# Altium footprint library Sheet1.PcbLib: 42 footprints (part 2 of 3)
Each footprint in its own frame and in the unit in brackets; x right, y up, seen from the top. Pads: shape width x height; smd on the part's side, far side on the other; paste and mask are expansions set on the pad; w line width, h text height; cw(c..) or ccw(c..) is an arc to the next point about the centre after c.
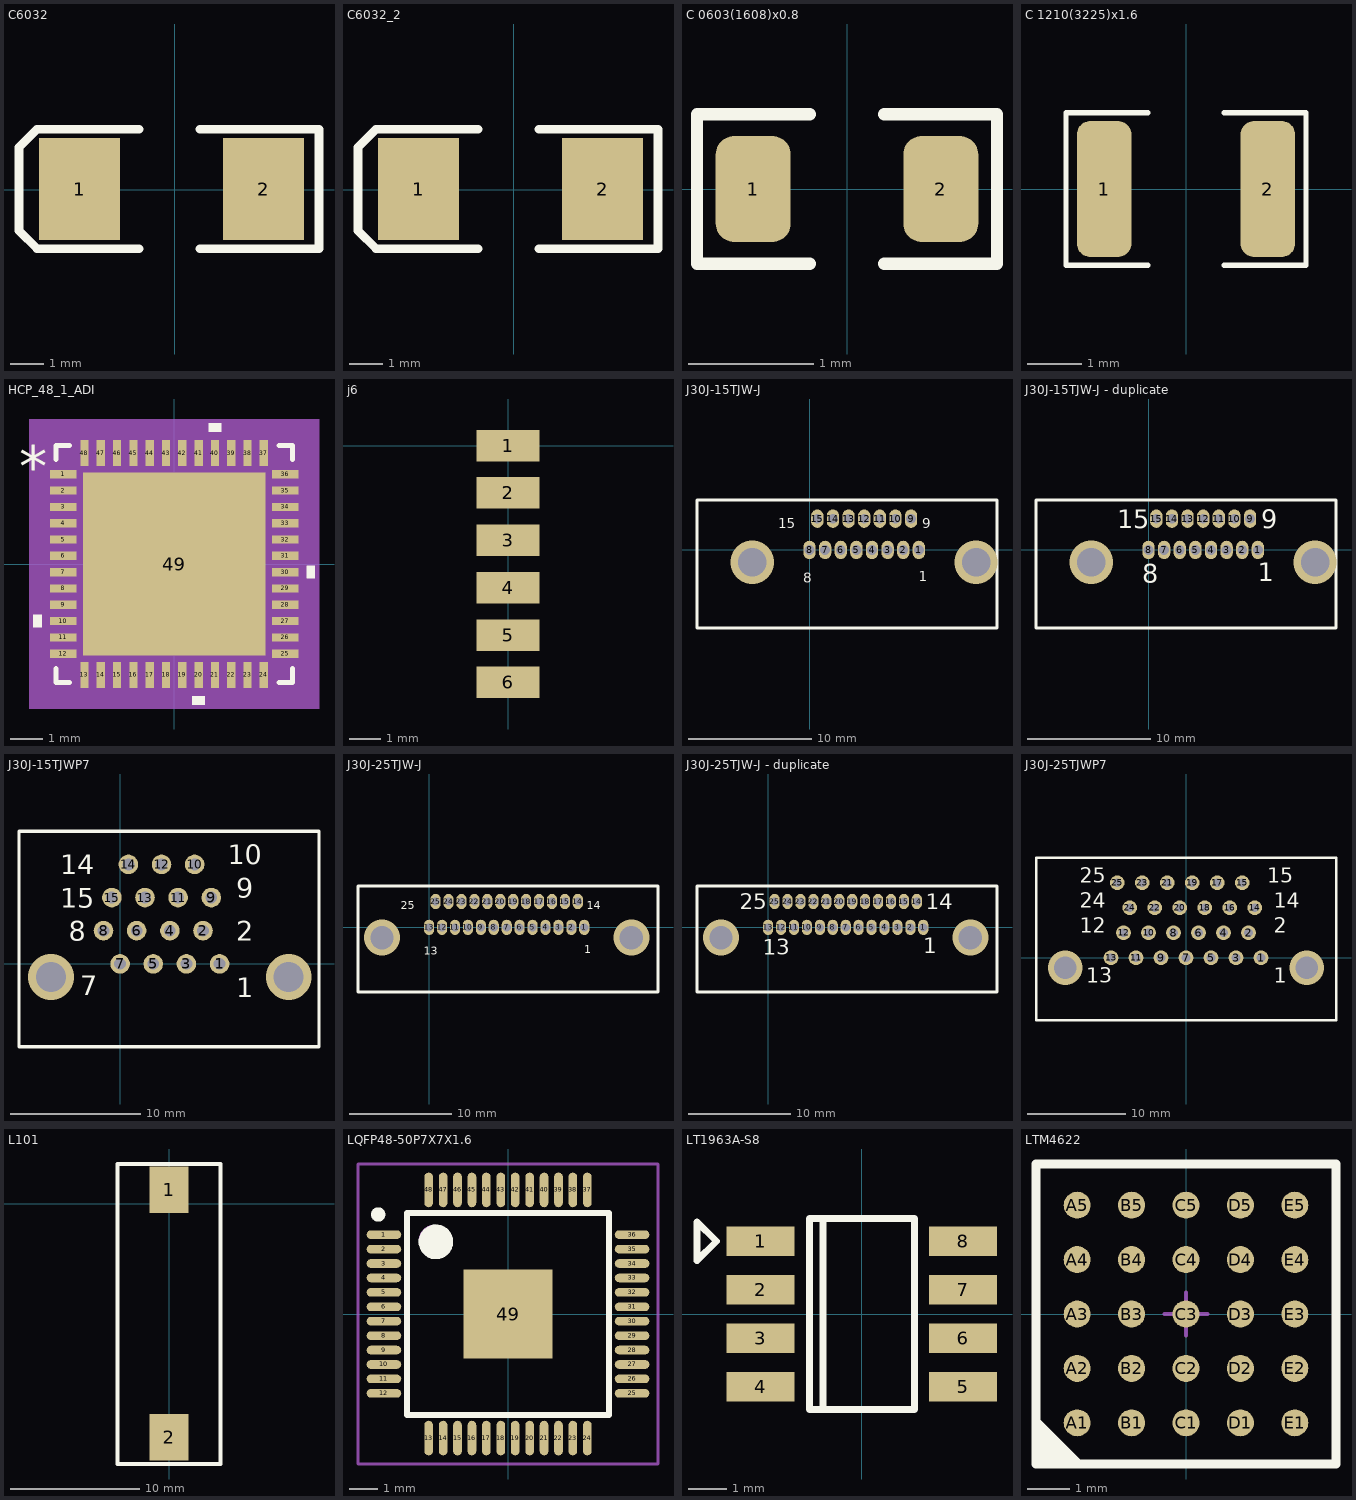
[diagram p1: the footprints below, top view; thin cyan lines are the x and y axes]

## C6032 [mil]
height 98.43
pads (2):
  rect 95x120 smd: 1(-112,1) 2(104,1)
Top Overlay:
  lines w10: -42,-69 -156,-69 -162,-69 -183,-48 -183,50 -163,70 -162,71 -42,71 ; 29,-69 169,-69 169,71 29,71
3D body "TAJ-C.STEP": height 102.36, standoff 0, extent -121.11,-61.99 115.11,63.99

## C6032_2 [mil]
pads (2):
  rect 95x120 smd: 1(-112,1) 2(104,1)
Top Overlay:
  lines w10: -42,-69 -156,-69 -162,-69 -183,-48 -183,50 -163,70 -162,71 -42,71 ; 29,-69 169,-69 169,71 29,71
3D body "TAJ-C.STEP": height 102.36, standoff 0, extent -121.11,-61.99 115.11,63.99

## C 0603(1608)x0.8 [mm]
height 0.8
pads (2):
  rrect50% 0.6x0.85 smd: 1(-0.75,0) 2(0.75,0)
Top Overlay:
  lines w0.1: -0.3,-0.6 -1.2,-0.6 -1.2,0.6 -0.3,0.6 ; 0.3,-0.6 1.2,-0.6 1.2,0.6 0.3,0.6
3D body "Cap 0603(1608)x80N.STEP": height 0.81, standoff 0, extent -0.8,-0.4 0.8,0.4

## C 1210(3225)x1.6 [mm]
height 1.6
pads (2):
  rrect50% 1x2.5 smd: 1(-1.5,0) 2(1.5,0)
Top Overlay:
  lines w0.1: -0.7,-1.4 -2.2,-1.4 -2.2,1.4 -0.7,1.4 ; 0.7,-1.4 2.2,-1.4 2.2,1.4 0.7,1.4
3D body "Cap 1210(3225)x160N.STEP": height 1.61, standoff 0, extent -1.6,-1.25 1.6,1.25

## HCP_48_1_ADI [mm]
pads (49):
  rect 0.805x0.254 smd paste+0 mask+0: 1(-3.402,2.75) 2(-3.402,2.25) 3(-3.402,1.75) 4(-3.402,1.25) 5(-3.402,0.75) 6(-3.402,0.25) 7(-3.402,-0.25) 8(-3.402,-0.75) 9(-3.402,-1.25) 10(-3.402,-1.75) 11(-3.402,-2.25) 12(-3.402,-2.75) 25(3.402,-2.75) 26(3.402,-2.25) 27(3.402,-1.75) 28(3.402,-1.25) 29(3.402,-0.75) 30(3.402,-0.25) 31(3.402,0.25) 32(3.402,0.75) 33(3.402,1.25) 34(3.402,1.75) 35(3.402,2.25) 36(3.402,2.75)
  rect 0.254x0.805 smd paste+0 mask+0: 13(-2.75,-3.402) 14(-2.25,-3.402) 15(-1.75,-3.402) 16(-1.25,-3.402) 17(-0.75,-3.402) 18(-0.25,-3.402) 19(0.25,-3.402) 20(0.75,-3.402) 21(1.25,-3.402) 22(1.75,-3.402) 23(2.25,-3.402) 24(2.75,-3.402) 37(2.75,3.402) 38(2.25,3.402) 39(1.75,3.402) 40(1.25,3.402) 41(0.75,3.402) 42(0.25,3.402) 43(-0.25,3.402) 44(-0.75,3.402) 45(-1.25,3.402) 46(-1.75,3.402) 47(-2.25,3.402) 48(-2.75,3.402)
  rect 5.6x5.6 smd paste-2.787 mask+0: 49(0,0)
Top Overlay:
  region: -4.059,-1.559 -4.313,-1.559 -4.313,-1.94 -4.059,-1.94
  region: 0.941,-4.059 0.56,-4.059 0.56,-4.313 0.941,-4.313
  region: 4.059,-0.059 4.313,-0.059 4.313,-0.44 4.059,-0.44
  region: 1.441,4.059 1.06,4.059 1.06,4.313 1.441,4.313
  lines w0.152: -3.627,-3.21 -3.627,-3.627 -3.21,-3.627 ; -3.627,3.21 -3.627,3.627 -3.21,3.627 ; 3.21,-3.627 3.627,-3.627 3.627,-3.21 ; 3.21,3.627 3.627,3.627 3.627,3.21
  text "*" at -4.757,2.365 h1.27
Top Paste:
  region: -1.5,2.7 -2.7,2.7 -2.7,1.5 -1.5,1.5
  region: -1.5,1.3 -2.7,1.3 -2.7,0.1 -1.5,0.1
  region: -1.5,-0.1 -2.7,-0.1 -2.7,-1.3 -1.5,-1.3
  region: -1.5,-1.5 -2.7,-1.5 -2.7,-2.7 -1.5,-2.7
  region: -0.1,2.7 -1.3,2.7 -1.3,1.5 -0.1,1.5
  region: -0.1,1.3 -1.3,1.3 -1.3,0.1 -0.1,0.1
  region: -0.1,-0.1 -1.3,-0.1 -1.3,-1.3 -0.1,-1.3
  region: -0.1,-1.5 -1.3,-1.5 -1.3,-2.7 -0.1,-2.7
  region: 1.3,2.7 0.1,2.7 0.1,1.5 1.3,1.5
  region: 1.3,1.3 0.1,1.3 0.1,0.1 1.3,0.1
  region: 1.3,-0.1 0.1,-0.1 0.1,-1.3 1.3,-1.3
  region: 1.3,-1.5 0.1,-1.5 0.1,-2.7 1.3,-2.7
  region: 2.7,2.7 1.5,2.7 1.5,1.5 2.7,1.5
  region: 2.7,1.3 1.5,1.3 1.5,0.1 2.7,0.1
  region: 2.7,-0.1 1.5,-0.1 1.5,-1.3 2.7,-1.3
  region: 2.7,-1.5 1.5,-1.5 1.5,-2.7 2.7,-2.7
Mechanical 5:
  region: 4.44,-4.44 -4.44,-4.44 -4.44,4.44 4.44,4.44
Mechanical 13:
  lines w0.025: -3.5,2.23 -2.23,3.5 ; -3.5,-3.5 3.5,-3.5 3.5,3.5 -3.5,3.5 -3.5,-3.5 ; -3.5,-2.902 -3.5,-2.598 -3.5,-2.902 ; -3.5,-2.402 -3.5,-2.098 -3.5,-2.402 ; -3.5,-1.902 -3.5,-1.598 -3.5,-1.902 ; -3.5,-1.402 -3.5,-1.098 -3.5,-1.402 ; -3.5,-0.902 -3.5,-0.598 -3.5,-0.902 ; -3.5,-0.402 -3.5,-0.098 -3.5,-0.402 ; -3.5,0.098 -3.5,0.402 -3.5,0.098 ; -3.5,0.598 -3.5,0.902 -3.5,0.598 ; -3.5,1.098 -3.5,1.402 -3.5,1.098 ; -3.5,1.598 -3.5,1.902 -3.5,1.598 ; -3.5,2.098 -3.5,2.402 -3.5,2.098 ; -3.5,2.598 -3.5,2.902 -3.5,2.598 ; -2.902,-3.5 -2.598,-3.5 -2.902,-3.5 ; -2.902,3.5 -2.598,3.5 -2.902,3.5 ; -2.402,-3.5 -2.098,-3.5 -2.402,-3.5 ; -2.402,3.5 -2.098,3.5 -2.402,3.5 ; -1.902,-3.5 -1.598,-3.5 -1.902,-3.5 ; -1.902,3.5 -1.598,3.5 -1.902,3.5 ; -1.402,-3.5 -1.098,-3.5 -1.402,-3.5 ; -1.402,3.5 -1.098,3.5 -1.402,3.5 ; -0.902,-3.5 -0.598,-3.5 -0.902,-3.5 ; -0.902,3.5 -0.598,3.5 -0.902,3.5 ; -0.402,-3.5 -0.098,-3.5 -0.402,-3.5 ; -0.402,3.5 -0.098,3.5 -0.402,3.5 ; 0.098,-3.5 0.402,-3.5 0.098,-3.5 ; 0.098,3.5 0.402,3.5 0.098,3.5 ; 0.598,-3.5 0.902,-3.5 0.598,-3.5 ; 0.598,3.5 0.902,3.5 0.598,3.5 ; 1.098,-3.5 1.402,-3.5 1.098,-3.5 ; 1.098,3.5 1.402,3.5 1.098,3.5 ; 1.598,-3.5 1.902,-3.5 1.598,-3.5 ; 1.598,3.5 1.902,3.5 1.598,3.5 ; 2.098,-3.5 2.402,-3.5 2.098,-3.5 ; 2.098,3.5 2.402,3.5 2.098,3.5 ; 2.598,-3.5 2.902,-3.5 2.598,-3.5 ; 2.598,3.5 2.902,3.5 2.598,3.5 ; 3.5,-2.902 3.5,-2.598 3.5,-2.902 ; 3.5,-2.402 3.5,-2.098 3.5,-2.402 ; 3.5,-1.902 3.5,-1.598 3.5,-1.902 ; 3.5,-1.402 3.5,-1.098 3.5,-1.402 ; 3.5,-0.902 3.5,-0.598 3.5,-0.902 ; 3.5,-0.402 3.5,-0.098 3.5,-0.402 ; 3.5,0.098 3.5,0.402 3.5,0.098 ; 3.5,0.598 3.5,0.902 3.5,0.598 ; 3.5,1.098 3.5,1.402 3.5,1.098 ; 3.5,1.598 3.5,1.902 3.5,1.598 ; 3.5,2.098 3.5,2.402 3.5,2.098 ; 3.5,2.598 3.5,2.902 3.5,2.598
  text "*" at -3.317,2.365 h1.27
Mechanical 15:
  region: -3.131,-3.754 -3.754,-3.754 -3.754,-3.131 -4.059,-3.131 -4.059,3.131 -3.754,3.131 -3.754,3.754 -3.131,3.754 -3.131,4.059 3.131,4.059 3.131,3.754 3.754,3.754 3.754,3.131 4.059,3.131 4.059,-3.131 3.754,-3.131 3.754,-3.754 3.131,-3.754 3.131,-4.059 -3.131,-4.059
  lines w0.152: -4.059,-3.131 -3.754,-3.131 -3.754,-3.754 -3.131,-3.754 -3.131,-4.059 3.131,-4.059 3.131,-3.754 3.754,-3.754 3.754,-3.131 4.059,-3.131 4.059,3.131 3.754,3.131 3.754,3.754 3.131,3.754 3.131,4.059 -3.131,4.059 -3.131,3.754 -3.754,3.754 -3.754,3.131 -4.059,3.131 -4.059,-3.131
3D body "HCP_48_1_ADI.step": height 0.9, standoff 0, extent -3.5,-3.5 3.5,3.5

## j6 [mm]
height 1.2
pads (6):
  rect 2x1 smd: 1(0,0) 2(0,-1.5) 3(0,-3) 4(0,-4.5) 5(0,-6) 6(0,-7.5)

## J30J-15TJW-J [mm]
pads (15):
  oval 1x1.5 hole 0.8: 1(8.89,0) 2(7.62,0) 3(6.35,0) 4(5.08,0) 5(3.81,0) 6(2.54,0) 7(1.27,0) 8(0,0) 9(8.255,2.54) 10(6.985,2.54) 11(5.715,2.54) 12(4.445,2.54) 13(3.175,2.54) 14(1.905,2.54) 15(0.635,2.54)
via -4.655,-1 diameter 3.5 hole 2.3
via 13.545,-1 diameter 3.5 hole 2.3
Top Overlay:
  lines w0.254: -9.144,-6.35 -9.144,4.064 15.24,4.064 15.24,-6.35 -9.144,-6.35
  text "1" at 8.89,-2.54 h0.8
  text "8" at -0.508,-2.667 h0.8
  text "15" at -2.54,1.778 h0.8
  text "9" at 9.144,1.778 h0.8

## J30J-15TJW-J - duplicate [mm]
pads (15):
  oval 1x1.5 hole 0.8: 1(8.89,0) 2(7.62,0) 3(6.35,0) 4(5.08,0) 5(3.81,0) 6(2.54,0) 7(1.27,0) 8(0,0) 9(8.255,2.54) 10(6.985,2.54) 11(5.715,2.54) 12(4.445,2.54) 13(3.175,2.54) 14(1.905,2.54) 15(0.635,2.54)
via -4.655,-1 diameter 3.5 hole 2.3
via 13.545,-1 diameter 3.5 hole 2.3
Top Overlay:
  lines w0.254: -9.144,-6.35 -9.144,4.064 15.24,4.064 15.24,-6.35 -9.144,-6.35
  text "1" at 8.89,-2.54 h1.52
  text "8" at -0.508,-2.667 h1.52
  text "15" at -2.54,1.778 h1.52
  text "9" at 9.144,1.778 h1.52

## J30J-15TJWP7 [mm]
pads (15):
  round 1.5 hole 0.9: 1(7.62,0) 2(6.35,2.54) 3(5.08,0) 4(3.81,2.54) 5(2.54,0) 6(1.27,2.54) 7(0,0) 8(-1.27,2.54) 9(6.985,5.08) 10(5.715,7.62) 11(4.445,5.08) 12(3.175,7.62) 13(1.905,5.08) 14(0.635,7.62) 15(-0.635,5.08)
via -5.29,-1 diameter 3.5 hole 2.3
via 12.91,-1 diameter 3.5 hole 2.3
Top Overlay:
  lines w0.254: -7.747,-6.35 -7.747,10.16 15.24,10.16 15.24,-6.35 -7.747,-6.35
  text "1" at 8.89,-2.54 h1.52
  text "7" at -3.048,-2.413 h1.52
  text "8" at -3.937,1.778 h1.52
  text "2" at 8.89,1.778 h1.52
  text "9" at 8.89,5.08 h1.52
  text "15" at -4.572,4.318 h1.52
  text "10" at 8.255,7.62 h1.52
  text "14" at -4.572,6.858 h1.52

## J30J-25TJW-J [mm]
pads (25):
  oval 1x1.5 hole 0.8: 1(15.24,0) 2(13.97,0) 3(12.7,0) 4(11.43,0) 5(10.16,0) 6(8.89,0) 7(7.62,0) 8(6.35,0) 9(5.08,0) 10(3.81,0) 11(2.54,0) 12(1.27,0) 13(0,0) 14(14.605,2.54) 15(13.335,2.54) 16(12.065,2.54) 17(10.795,2.54) 18(9.525,2.54) 19(8.255,2.54) 20(6.985,2.54) 21(5.715,2.54) 22(4.445,2.54) 23(3.175,2.54) 24(1.905,2.54) 25(0.635,2.54)
via 19.87,-1 diameter 3.5 hole 2.3
via -4.63,-1 diameter 3.5 hole 2.3
Top Overlay:
  lines w0.254: -6.985,-6.35 22.479,-6.35 22.479,4.064 -6.985,4.064 -6.985,-6.35
  text "14" at 15.494,1.778 h0.8
  text "25" at -2.794,1.778 h0.8
  text "13" at -0.508,-2.667 h0.8
  text "1" at 15.24,-2.54 h0.8

## J30J-25TJW-J - duplicate [mm]
pads (25):
  oval 1x1.5 hole 0.8: 1(15.24,0) 2(13.97,0) 3(12.7,0) 4(11.43,0) 5(10.16,0) 6(8.89,0) 7(7.62,0) 8(6.35,0) 9(5.08,0) 10(3.81,0) 11(2.54,0) 12(1.27,0) 13(0,0) 14(14.605,2.54) 15(13.335,2.54) 16(12.065,2.54) 17(10.795,2.54) 18(9.525,2.54) 19(8.255,2.54) 20(6.985,2.54) 21(5.715,2.54) 22(4.445,2.54) 23(3.175,2.54) 24(1.905,2.54) 25(0.635,2.54)
via 19.87,-1 diameter 3.5 hole 2.3
via -4.63,-1 diameter 3.5 hole 2.3
Top Overlay:
  lines w0.254: -6.985,-6.35 22.479,-6.35 22.479,4.064 -6.985,4.064 -6.985,-6.35
  text "14" at 15.494,1.778 h1.52
  text "25" at -2.794,1.778 h1.52
  text "13" at -0.508,-2.667 h1.52
  text "1" at 15.24,-2.54 h1.52

## J30J-25TJWP7 [mm]
pads (25):
  round 1.5 hole 0.9: 1(7.62,0) 2(6.35,2.54) 3(5.08,0) 4(3.81,2.54) 5(2.54,0) 6(1.27,2.54) 7(0,0) 8(-1.27,2.54) 9(-2.54,0) 10(-3.81,2.54) 11(-5.08,0) 12(-6.35,2.54) 13(-7.62,0) 14(6.985,5.08) 15(5.715,7.62) 16(4.445,5.08) 17(3.175,7.62) 18(1.905,5.08) 19(0.635,7.62) 20(-0.635,5.08) 21(-1.905,7.62) 22(-3.175,5.08) 23(-4.445,7.62) 24(-5.715,5.08) 25(-6.985,7.62)
via -12.25,-1 diameter 3.5 hole 2.3
via 12.25,-1 diameter 3.5 hole 2.3
Top Overlay:
  lines w0.254: -15.24,-6.35 -15.24,10.16 15.24,10.16 15.24,-6.35 -15.24,-6.35
  text "1" at 8.89,-2.54 h1.52
  text "13" at -10.16,-2.54 h1.52
  text "12" at -10.795,2.54 h1.52
  text "2" at 8.89,2.54 h1.52
  text "14" at 8.89,5.08 h1.52
  text "24" at -10.795,5.08 h1.52
  text "15" at 8.255,7.62 h1.52
  text "25" at -10.795,7.62 h1.52

## L101 [mm]
height 0.8
pads (2):
  rect 3x3.6 smd: 1(0,1.067) 2(0,-18.133)
Top Overlay:
  lines w0.3: -4,-20.193 4,-20.193 4,3.067 -4,3.067 -4,-20.193

## LQFP48-50P7X7X1.6 [mm] "LQFP, 48-Leads, Body 9.2x9.2mm (max), Pitch 0.50mm, IPC Medium Density"
height 1.6
pads (49):
  oval 1.2x0.3 smd: 1(-4.3,2.75) 2(-4.3,2.25) 3(-4.3,1.75) 4(-4.3,1.25) 5(-4.3,0.75) 6(-4.3,0.25) 7(-4.3,-0.25) 8(-4.3,-0.75) 9(-4.3,-1.25) 10(-4.3,-1.75) 11(-4.3,-2.25) 12(-4.3,-2.75) 25(4.3,-2.75) 26(4.3,-2.25) 27(4.3,-1.75) 28(4.3,-1.25) 29(4.3,-0.75) 30(4.3,-0.25) 31(4.3,0.25) 32(4.3,0.75) 33(4.3,1.25) 34(4.3,1.75) 35(4.3,2.25) 36(4.3,2.75)
  oval 0.3x1.2 smd: 13(-2.75,-4.3) 14(-2.25,-4.3) 15(-1.75,-4.3) 16(-1.25,-4.3) 17(-0.75,-4.3) 18(-0.25,-4.3) 19(0.25,-4.3) 20(0.75,-4.3) 21(1.25,-4.3) 22(1.75,-4.3) 23(2.25,-4.3) 24(2.75,-4.3) 37(2.75,4.3) 38(2.25,4.3) 39(1.75,4.3) 40(1.25,4.3) 41(0.75,4.3) 42(0.25,4.3) 43(-0.25,4.3) 44(-0.75,4.3) 45(-1.25,4.3) 46(-1.75,4.3) 47(-2.25,4.3) 48(-2.75,4.3)
  rect 3.1x3.1 smd: 49(0,0)
Top Overlay:
  circle w0.25: c-4.5,3.45 r0.125
  circle w0.6: c-2.5,2.5 r0.3
  lines w0.2: -3.5,-3.5 -3.5,3.5 3.5,3.5 3.5,-3.5 -3.5,-3.5
Mechanical 13:
  circle w0.1: c-2.55,2.55 r0.5
  lines w0.1: -3.5,-3.5 -3.5,3.5 3.5,3.5 3.5,-3.5 -3.5,-3.5
Mechanical 15:
  lines w0.1: -0.5,0 0.5,0 ; 0,-0.5 0,0.5 ; -5.2,-5.2 -5.2,5.2 5.2,5.2 5.2,-5.2 -5.2,-5.2
3D body: height 1.6, standoff 0.05, extent -3.5,-3.5 3.5,3.5

## LT1963A-S8 [mil]
pads (8):
  rect 70x30 smd: 1(-104.33,75) 2(-104.33,25) 3(-104.33,-25) 4(-104.33,-75) 5(104.33,-75) 6(104.33,-25) 7(104.33,25) 8(104.33,75)
Top Overlay:
  lines w7: -40,-98.43 -40,98.43 ; -170,55 -150,75 -170,95 -170,55 ; -54.02,-98.43 -54.02,98.43 54.2,98.43 54.2,-98.43 -54.02,-98.43

## LTM4622 [mm]
height 1.55
pads (25):
  round 0.63 smd: A1(-2.54,-2.54) A2(-2.54,-1.27) A3(-2.54,0) A4(-2.54,1.27) A5(-2.54,2.54) B1(-1.27,-2.54) B2(-1.27,-1.27) B3(-1.27,0) B4(-1.27,1.27) B5(-1.27,2.54) C1(0,-2.54) C2(0,-1.27) C3(0,0) C4(0,1.27) C5(0,2.54) D1(1.27,-2.54) D2(1.27,-1.27) D3(1.27,0) D4(1.27,1.27) D5(1.27,2.54) E1(2.54,-2.54) E2(2.54,-1.27) E3(2.54,0) E4(2.54,1.27) E5(2.54,2.54)
Top Overlay:
  region: -3.5,-2.5 -2.5,-3.5 -3.5,-3.5
  lines w0.2: -3.5,-2.5 -2.5,-3.5 ; -3.5,-3.5 -3.5,3.5 3.5,3.5 3.5,-3.5 -3.5,-3.5
Mechanical 13:
  lines w0.1: -3.5,-3.5 -3.5,3.5 3.5,3.5 3.5,-3.5 -3.5,-3.5
Mechanical 15:
  lines w0.1: -0.5,0 0.5,0 ; 0,-0.5 0,0.5
3D body: height 1.55, standoff 0, extent -3.5,-3.5 3.5,3.5